# Altium schematic symbol library EE318-Schlib.SchLib: 12 symbols
Pins are listed as number, name and electrical type; pins without a type are passive.

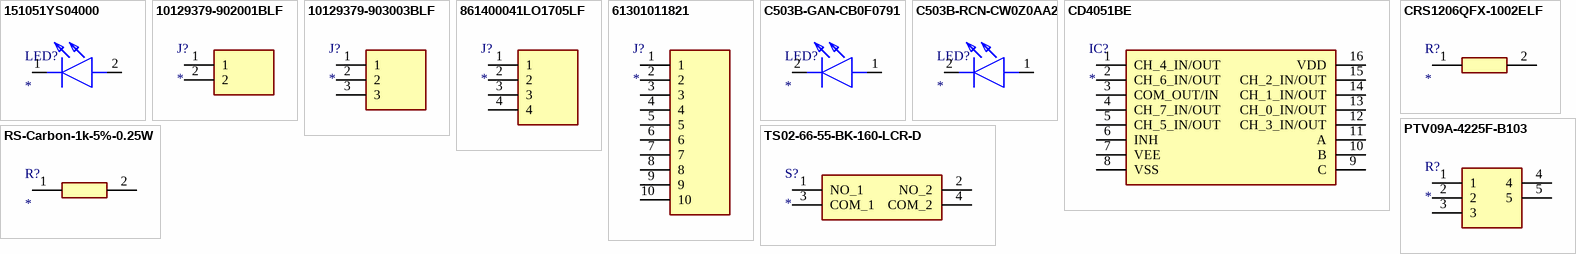
[diagram p0: symbols 151051YS04000 to TS02-66-55-BK-160-LCR-D]

## 151051YS04000
designator LED?
LED; Manufacturer_Name: Wurth Elektronik; Manufacturer_Part_Number: 151051YS04000; Datasheet Link: https://katalog.we-online.de/led/datasheet/151051YS04000.pdf; Height: 8.95mm; Mouser Part Number: 710-151051YS04000; Mouser Price/Stock: https://www.mouser.co.uk/ProductDetail/Wurth-Elektronik/151051YS04000?qs=LlUlMxKIyB0Q49NwiX6stg%3D%3D
footprint 151051YS04000
pins: 1 K, 2 A

## 10129379-902001BLF
designator J?
Connector; Manufacturer_Name: Amphenol Communications Solutions; Manufacturer_Part_Number: 10129379-902001BLF; Description: EconoStik 2.54mm; Datasheet Link: https://cdn.amphenol-cs.com/media/wysiwyg/files/drawing/10129379.pdf; Height: 2.41mm; Mouser Part Number: 649-1012937990201BLF; Mouser Price/Stock: https://www.mouser.co.uk/ProductDetail/Amphenol-FCI/10129379-902001BLF?qs=0lQeLiL1qyaP31CJBOzNsg%3D%3D; Arrow Part Number: 10129379-902001BLF; Arrow Price/Stock: https://www.arrow.com/en/products/10129379-902001blf/amphenol-fci?region=nac
footprint HDRRA2W67P0X254_1X2_508X254X241P
pins: 1, 2

## 10129379-903003BLF
designator J?
Connector; Manufacturer_Name: Amphenol Communications Solutions; Manufacturer_Part_Number: 10129379-903003BLF; Datasheet Link: https://cdn.amphenol-cs.com/media/wysiwyg/files/drawing/10129379.pdf; Height: 2.41mm; Mouser Part Number: 649-1012937990303BLF; Mouser Price/Stock: https://www.mouser.co.uk/ProductDetail/Amphenol-FCI/10129379-903003BLF?qs=0lQeLiL1qya1UBwARe4kTQ%3D%3D
footprint 10129379903003BLF
pins: 1, 2, 3

## 861400041LO1705LF
designator J?
Connector; Manufacturer_Name: Amphenol Communications Solutions; Manufacturer_Part_Number: 861400041LO1705LF; Datasheet Link: https://cdn.amphenol-cs.com/media/wysiwyg/files/drawing/c-8614-0136.pdf; Height: 2.64mm; Mouser Part Number: 649-86140041LO1705LF; Mouser Price/Stock: https://www.mouser.co.uk/ProductDetail/Amphenol-FCI/861400041LO1705LF?qs=7JiUwvV4mh6qwBpNV5AhhA%3D%3D
footprint HDRRA4W63P0X254_1X4_1016X260X264P
pins: 1, 2, 3, 4

## 61301011821
designator J?
Connector; Manufacturer_Name: Wurth Elektronik; Manufacturer_Part_Number: 61301011821; Datasheet Link: http://katalog.we-online.de/em/datasheet/6130xx11821.pdf; Height: 8.5mm; Mouser Part Number: 710-61301011821; Mouser Price/Stock: https://www.mouser.co.uk/ProductDetail/Wurth-Elektronik/61301011821?qs=W%252B2sBeLta1ZhlLR0YCzonQ%3D%3D
footprint RHDR10W60P0X254_1X10_2590X250X850P
pins: 1, 2, 3, 4, 5, 6, 7, 8, 9, 10

## C503B-GAN-CB0F0791
designator LED?
LED; Manufacturer_Name: Wolfspeed; Manufacturer_Part_Number: C503B-GAN-CB0F0791; Datasheet Link: https://www.cree.com/led-components/media/documents/1300-C503B-BAS-BAN-GAS-GAN.pdf; Height: 10.55mm; Mouser Part Number: 941-C503BGANCB0F0791; Mouser Price/Stock: https://www.mouser.co.uk/ProductDetail/Cree-LED/C503B-GAN-CB0F0791?qs=UHyCXFkX5Ey%252ByHW9bNI8Ew%3D%3D; Arrow Part Number: C503B-GAN-CB0F0791; Arrow Price/Stock: https://www.arrow.com/en/products/c503b-gan-cb0f0791/cree
footprint C503BGANCB0F0791
pins: 1 A, 2 K

## C503B-RCN-CW0Z0AA2
designator LED?
LED; Manufacturer_Name: Wolfspeed; Manufacturer_Part_Number: C503B-RCN-CW0Z0AA2; Datasheet Link: https://www.cree.com/led-components/media/documents/C503B-RAS-RAN-AAS-AAN-RBS-RBN-ABS-ABN-RCS-RCN-ACS-ACN-1079.pdf; Height: 10.3mm; Mouser Part Number: 941-C503BRCNCW0Z0AA2; Mouser Price/Stock: https://www.mouser.co.uk/ProductDetail/Cree-LED/C503B-RCN-CW0Z0AA2?qs=D3QG1iK7Fqi9NpEpLN2Agw%3D%3D; Arrow Part Number: C503B-RCN-CW0Z0AA2; Arrow Price/Stock: https://www.arrow.com/en/products/c503b-rcn-cw0z0aa2/cree-led?region=nac
footprint C503BRCNCW0Z0AA2
pins: 1 A, 2 K

## CD4051BE
designator IC?
Multiplexer; Manufacturer_Name: Texas Instruments; Manufacturer_Part_Number: CD4051BE; Datasheet Link: http://www.ti.com/lit/ds/symlink/cd4051b.pdf; Height: 5.08mm; Mouser Part Number: 595-CD4051BE; Mouser Price/Stock: https://www.mouser.co.uk/ProductDetail/Texas-Instruments/CD4051BE?qs=q2XTDbzbm6DxulBsMcV7tA%3D%3D; Arrow Part Number: CD4051BE; Arrow Price/Stock: https://www.arrow.com/en/products/cd4051be/texas-instruments?region=nac
footprint DIP794W53P254L1930H508Q16N
pins: 1 CH_4_IN/OUT, 2 CH_6_IN/OUT, 3 COM_OUT/IN, 4 CH_7_IN/OUT, 5 CH_5_IN/OUT, 6 INH, 7 VEE, 8 VSS, 9 C, 10 B, 11 A, 12 CH_3_IN/OUT, 13 CH_0_IN/OUT, 14 CH_1_IN/OUT, 15 CH_2_IN/OUT, 16 VDD

## CRS1206QFX-1002ELF
designator R?
Resistor; Manufacturer_Name: Bourns; Manufacturer_Part_Number: CRS1206QFX-1002ELF; Datasheet Link: http://www.bourns.com/docs/Product-Datasheets/CRS-Q.pdf; Height: 0.65mm; Mouser Part Number: 652-CRS1206QFX-1002E; Mouser Price/Stock: https://www.mouser.co.uk/ProductDetail/Bourns/CRS1206QFX-1002ELF?qs=8Wlm6%252BaMh8QKdvkWTPthtg%3D%3D
footprint RESC3116X65N
pins: 1, 2

## PTV09A-4225F-B103
designator R?
Potentiometer; Manufacturer_Name: Bourns; Manufacturer_Part_Number: PTV09A-4225F-B103; Allied_Number: 71279417; Datasheet Link: http://uk.rs-online.com/web/p/products/8274990P; Height: 20mm; RS Part Number: 8274990P; RS Price/Stock: http://uk.rs-online.com/web/p/products/8274990P
footprint PTV09A4020FB103
pins: 1, 2, 3, 4, 5

## RS-Carbon-1k-5%-0.25W
designator R?
Resistor; Manufacturer_Name: RS Components; Manufacturer_Part_Number: RS-Carbon-1k-5%-0.25W; RS Part Number: 7397459; RS Price/Stock: https://uk.rs-online.com/web/p/products/7397459
footprint RESAD1550W58L630D230
pins: 1, 2

## TS02-66-55-BK-160-LCR-D
designator S?
Switch; Manufacturer_Name: CUI Devices; Manufacturer_Part_Number: TS02-66-55-BK-160-LCR-D; Datasheet Link: https://www.cuidevices.com/product/resource/ts02.pdf; Height: 5.7mm; Mouser Part Number: 179-TS026655BK160LCR; Mouser Price/Stock: https://www.mouser.co.uk/ProductDetail/CUI-Devices/TS02-66-55-BK-160-LCR-D?qs=A6eO%252BMLsxmRHvFZWtBPtJQ%3D%3D; Arrow Part Number: TS02-66-55-BK-160-LCR-D; Arrow Price/Stock: https://www.arrow.com/en/products/ts02-66-55-bk-160-lcr-d/cui-devices?region=nac
footprint TS026655BK160LCRD
pins: 1 NO_1, 2 NO_2, 3 COM_1, 4 COM_2